# Altium footprint library SM8 (DCT).PcbLib: 3 footprints
Each footprint in its own frame and in the unit in brackets; x right, y up, seen from the top. Pads: shape width x height; smd on the part's side, far side on the other; paste and mask are expansions set on the pad; w line width, h text height; cw(c..) or ccw(c..) is an arc to the next point about the centre after c.
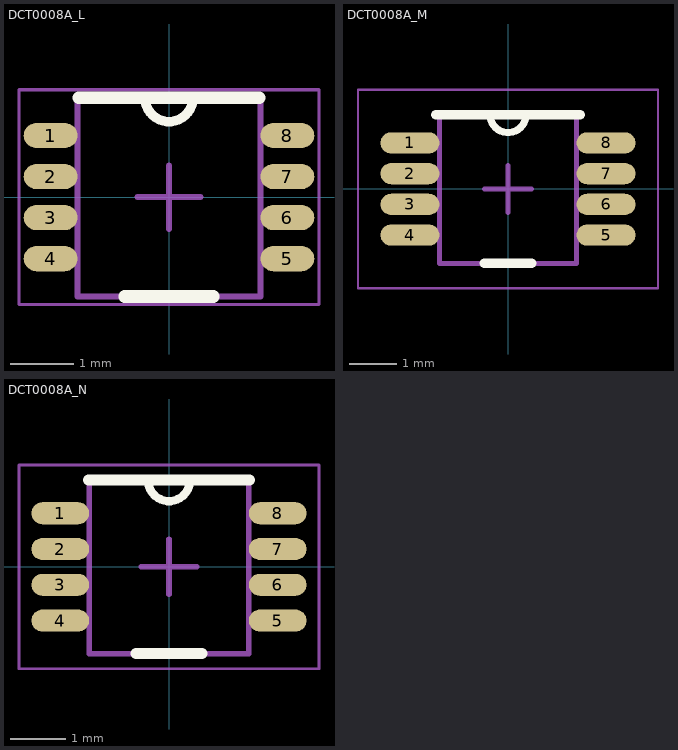
[diagram p0: the footprints below, top view; thin cyan lines are the x and y axes]

## DCT0008A_L [mm]
pads (8):
  oval 0.85x0.4 smd: 1(-1.875,0.975) 2(-1.875,0.325) 3(-1.875,-0.325) 4(-1.875,-0.975) 5(1.875,-0.975) 6(1.875,-0.325) 7(1.875,0.325) 8(1.875,0.975)
Top Overlay:
  lines w0.152: -0.381,1.575 ccw(c0,1.575) 0.381,1.575
  lines w0.2: -1.425,1.575 1.425,1.575 ; -0.7,-1.575 0.7,-1.575
Mechanical 13:
  lines w0.1: -1.45,-1.575 1.45,-1.575 1.45,1.575 -1.45,1.575 -1.45,-1.575
Mechanical 15:
  lines w0.05: -2.375,-1.7 2.375,-1.7 2.375,1.7 -2.375,1.7 -2.375,-1.7
  lines w0.1: -0.5,0 0.5,0 ; 0,-0.5 0,0.5
3D body "DCT0008A.stp": height 0.91, standoff 0, extent -2.01,-1.475 2.011,1.475

## DCT0008A_M [mm]
pads (8):
  oval 1.25x0.45 smd: 1(-2.075,0.975) 2(-2.075,0.325) 3(-2.075,-0.325) 4(-2.075,-0.975) 5(2.075,-0.975) 6(2.075,-0.325) 7(2.075,0.325) 8(2.075,0.975)
Top Overlay:
  lines w0.152: -0.381,1.575 ccw(c0,1.575) 0.381,1.575
  lines w0.2: -1.525,1.575 1.525,1.575 ; -0.5,-1.575 0.5,-1.575
Mechanical 13:
  lines w0.1: -1.45,-1.575 -1.45,1.575 1.45,1.575 1.45,-1.575 -1.45,-1.575
Mechanical 15:
  lines w0.05: -3.175,-2.1 -3.175,2.1 3.175,2.1 3.175,-2.1 -3.175,-2.1
  lines w0.1: -0.5,0 0.5,0 ; 0,-0.5 0,0.5
3D body "DCT0008A.stp": height 0.91, standoff 0, extent -2.01,-1.475 2.011,1.475

## DCT0008A_N [mm]
pads (8):
  oval 1.05x0.4 smd: 1(-1.975,0.975) 2(-1.975,0.325) 3(-1.975,-0.325) 4(-1.975,-0.975) 5(1.975,-0.975) 6(1.975,-0.325) 7(1.975,0.325) 8(1.975,0.975)
Top Overlay:
  lines w0.152: -0.381,1.575 ccw(c0,1.575) 0.381,1.575
  lines w0.2: -1.463,1.575 1.462,1.575 ; -0.6,-1.575 0.6,-1.575
Mechanical 13:
  lines w0.1: -1.45,-1.575 1.45,-1.575 1.45,1.575 -1.45,1.575 -1.45,-1.575
Mechanical 15:
  lines w0.05: -2.725,-1.85 -2.725,1.85 2.725,1.85 2.725,-1.85 -2.725,-1.85
  lines w0.1: -0.5,0 0.5,0 ; 0,-0.5 0,0.5
3D body "DCT0008A.stp": height 0.91, standoff 0, extent -2.01,-1.475 2.011,1.475